# Altium schematic symbol library CodeBlock.SchLib: 19 symbols
Pins are listed as number, name and electrical type; pins without a type are passive.

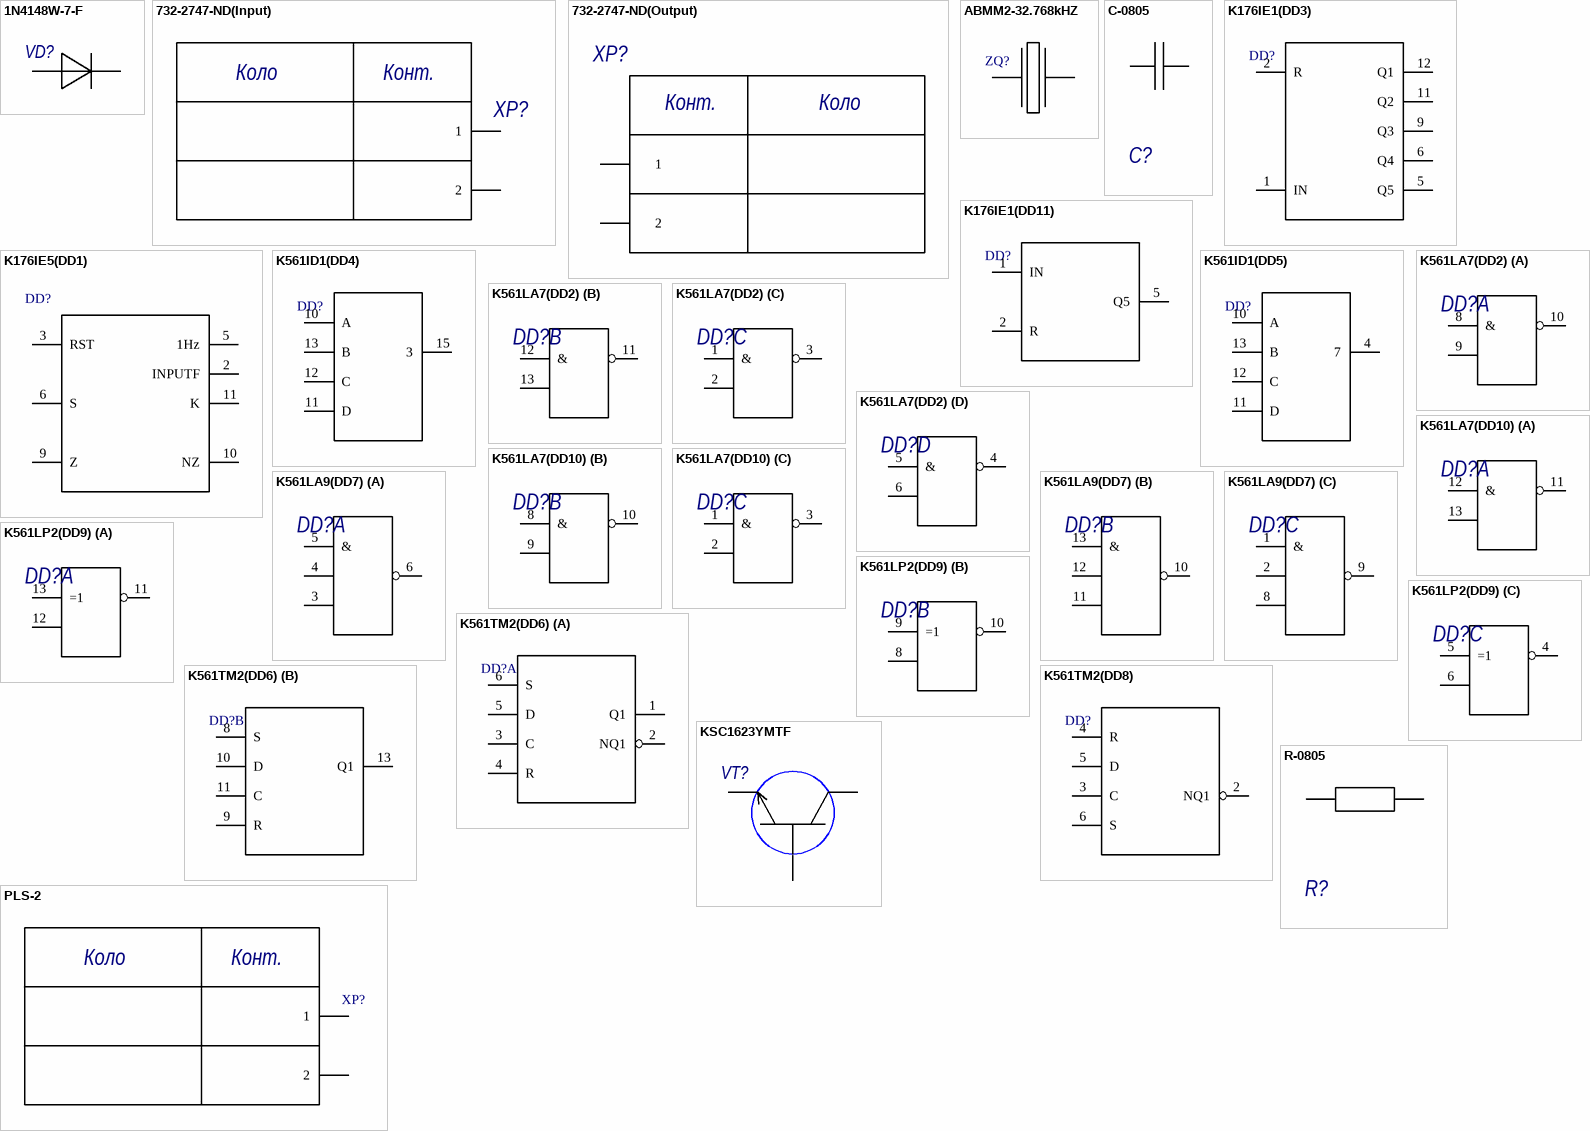
[diagram p0: symbols 1N4148W-7-F to R-0805]

## 1N4148W-7-F
designator VD?, comment 1N4148W-7-F NXP  (value not drawn)
1N4148W-7-F; Manufacturer: NXP; Name: 1N4148W-7-F
footprint SOD123
pins: 1, 2

## 732-2747-ND(Input)
designator XP?, comment 732-2747-ND KLS  (value not drawn)
732-2747-ND; Manufacturer: KLS; Name: 732-2747-ND
footprint TE 282834-2
pins: 1, 2
text: Коло; Конт.

## 732-2747-ND(Output)
designator XP?, comment 732-2747-ND KLS  (value not drawn)
732-2747-ND; Name: 732-2747-ND; Manufacturer: KLS
footprint TE 282834-2
pins: 1      1, 2      2
text: Конт.; Коло

## ABMM2-32.768kHZ
designator ZQ?, comment ABMM2-32.768MHZ Jauch  (value not drawn)
ABMM2-32.768kHZ; Manufacturer: Jauch; Name: ABMM2-32.768MHZ
footprint CRYSTAL_ABMM2
pins: 1, 3

## C-0805
designator C?, comment С-0805 50 В 100 пФ 5% C0G/NP0 Kemet  (value not drawn)
C-0805; Value: 100 пФ; Voltage: 50 В; Package: С-0805; Temp_Coef: C0G/NP0; Tolerance: 5%; Manufacturer: Kemet
footprint C-0805 (capacitor 0805 reflow soldering)
pins: 1, 2

## K176IE1(DD3)
designator DD?, comment SN74F24BM Texas Instruments  (value not drawn)
SN74F24BM; Manufacturer: Texas Instruments; Name: SN74F24BM; ComponentLink1Description: Component; ComponentLink1URL: https://www.digikey.com/product-detail/en/texas-instruments/CD4024BM/296-25942-5-ND/1690888
footprint D14
pins: 1 IN, 2 R, 5 Q5, 6 Q4, 7 GND hidden to GND, 9 Q3, 11 Q2, 12 Q1, 14 VDD hidden to VDD

## K176IE1(DD11)
designator DD?, comment SN74F24BM Texas Instruments  (value not drawn)
SN74F24BM; Manufacturer: Texas Instruments; Name: SN74F24BM; ComponentLink1Description: Component; ComponentLink1URL: https://www.digikey.com/product-detail/en/texas-instruments/CD4024BM/296-25942-5-ND/1690888
footprint D14
pins: 1 IN, 2 R, 5 Q5, 7 GND hidden to GND, 14 VDD hidden to VDD

## K176IE5(DD1)
designator DD?, comment К176ИЕ5 СССР  (value not drawn)
Manufacturer: СССР; Name: К176ИЕ5
footprint DIP14
pins: 2 INPUTF, 3 RST, 5 1Hz, 6 S, 7 GND hidden to GND, 9 Z, 10 NZ, 11 K, 14 VDD hidden to VDD

## K561ID1(DD4)
designator DD?, comment SN74F28BM96 Texas Instruments  (value not drawn)
SN74F28BM96; Manufacturer: Texas Instruments; Name: SN74F28BM96; ComponentLink1Description: Component; ComponentLink1URL: https://www.digikey.com/product-detail/en/texas-instruments/CD4028BM96/296-16702-2-ND/614903
footprint D16
pins: 8 GND hidden to GND, 10 A, 11 D, 12 C, 13 B, 15 3, 16 VDD hidden to VDD

## K561ID1(DD5)
designator DD?, comment SN74F28BM96 Texas Instruments  (value not drawn)
SN74F28BM96; Manufacturer: Texas Instruments; Name: SN74F28BM96; ComponentLink1Description: Component; ComponentLink1URL: https://www.digikey.com/product-detail/en/texas-instruments/CD4028BM96/296-16702-2-ND/614903
footprint D16
pins: 4 7, 8 GND hidden to GND, 10 A, 11 D, 12 C, 13 B, 16 VDD hidden to VDD

## K561LA7(DD2)
designator DD?, comment SN74F38DR Texas Instruments  (value not drawn)
SN74F38DR; Name: SN74F38DR; Manufacturer: Texas Instruments; ComponentLink2Description: Component; ComponentLink2URL: https://www.digikey.com/product-detail/en/texas-instruments/SN74F38DR/296-14312-2-ND/528568
footprint D14
part A pins: 7 GND hidden to GND, 8 &, 9, 10, 14 VDD hidden to VDD
part B pins: 11, 12 &, 13
part C pins: 1 &, 2, 3
part D pins: 4, 5 &, 6

## K561LA7(DD10)
designator DD?, comment SN74F11BM96 Texas Instruments  (value not drawn)
SN74F11BM96; ComponentLink1Description: Component; ComponentLink1URL: https://www.digikey.com/product-detail/en/texas-instruments/CD4011BM96/296-14474-2-ND/555772; Name: SN74F11BM96; Manufacturer: Texas Instruments
footprint D14
part A pins: 7 GND hidden to GND, 11, 12 &, 13, 14 VDD hidden to VDD
part B pins: 8 &, 9, 10
part C pins: 1 &, 2, 3

## K561LA9(DD7)
designator DD?, comment SN74F23BM Texas Instruments  (value not drawn)
SN74F23BM; ComponentLink1Description: Component; ComponentLink1URL: https://www.digikey.com/product-detail/en/texas-instruments/CD4023BM/296-25941-5-ND/1690876; Name: SN74F23BM; Manufacturer: Texas Instruments
footprint D14
part A pins: 3, 4, 5 &, 6, 7 GND hidden to GND, 14 VDD hidden to VDD
part B pins: 10, 11, 12, 13 &
part C pins: 1 &, 2, 8, 9

## K561LP2(DD9)
designator DD?, comment SN74F70BM96 Texas Instruments  (value not drawn)
SN74F70BM96; ComponentLink1Description: Component; ComponentLink1URL: https://www.digikey.com/product-detail/en/texas-instruments/CD4070BM96/296-31517-2-ND/1691299; Name: SN74F70BM96; Manufacturer: Texas Instruments
footprint D14
part A pins: 11, 12, 13 =1
part B pins: 8, 9 =1, 10
part C pins: 4, 5 =1, 6 2, 7 GND hidden to GND, 14 VDD hidden to VDD

## K561TM2(DD6)
designator DD?, comment SN74F13BM96 Texas Instruments  (value not drawn)
SN74F13BM96; Manufacturer: Texas Instruments; Name: SN74F13BM96; ComponentLink1Description: Component; ComponentLink1URL: https://www.digikey.com/product-detail/en/texas-instruments/CD4013BM96/296-24347-2-ND/1690718
footprint D14
part A pins: 1 Q1, 2 NQ1, 3 C, 4 R, 5 D, 6 S, 7 GND hidden to GND, 14 VDD hidden to VDD
part B pins: 8 S, 9 R, 10 D, 11 C, 13 Q1

## K561TM2(DD8)
designator DD?, comment SN74F13BM96 Texas Instruments  (value not drawn)
SN74F13BM96; Manufacturer: Texas Instruments; Name: SN74F13BM96; ComponentLink1Description: Component; ComponentLink1URL: https://www.digikey.com/product-detail/en/texas-instruments/CD4013BM96/296-24347-2-ND/1690718
footprint D14
pins: 2 NQ1, 3 C, 4 R, 5 D, 6 S, 7 GND hidden to GND, 14 VDD hidden to VDD

## KSC1623YMTF
designator VT?, comment KSC1623YMTF Infineon  (value not drawn)
KSC1623YMTF; Manufacturer: Infineon; Name: KSC1623YMTF; ComponentLink1Description: Component; ComponentLink1URL: https://www.digikey.com/product-detail/en/on-semiconductor/KSC1623YMTF/KSC1623YMTFTR-ND/1047566
footprint SOT23 (SOT23, 3-Leads, Body 2,90x2,45mm, Pitch 0,95mm, IPC Medium Density)
pins: 1, 2, 3

## PLS-2
designator XP?, comment PLS-2 Ningbo Zhenqin Electronic  (value not drawn)
PLS-2; Manufacturer: Ningbo Zhenqin Electronic; Name: PLS-2
footprint PLS-2
pins: 1, 2
text: Коло; Конт.

## R-0805
designator R?, comment R-0805 0,125 Вт 1 кОм 5% Hitano  (value not drawn)
R-0805; Value: 1 кОм; Package: R-0805; Power: 0,125 Вт; Tolerance: 5%; Manufacturer: Hitano; ComponentLink1Description: Component; ComponentLink1URL: https://www.digikey.com/product-detail/en/yageo/RC0805JR-07100RL/311-100ARTR-ND/728238
footprint RC0805N
pins: 1, 2